# Altium schematic symbol library Wavefolder.SchLib: 5 symbols
Pins are listed as number, name and electrical type; pins without a type are passive.

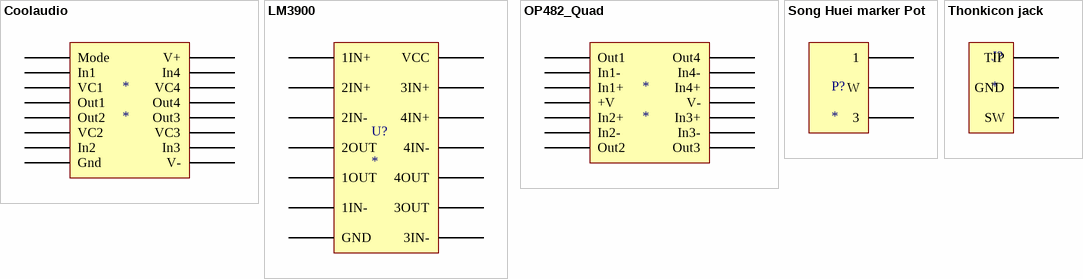
[diagram p0: symbols Coolaudio to Thonkicon jack]

## Coolaudio
designator *
footprint PCBComponent_1
pins: 1 Mode, 2 In1, 3 VC1, 4 Out1, 5 Out2, 6 VC2, 7 In2, 8 Gnd, 9 V-, 10 In3, 11 VC3, 12 Out3, 13 Out4, 14 VC4, 15 In4, 16 V+

## LM3900
designator U?
footprint LM3900 (LM3900 SOIC)
pins: 1 1IN+, 2 2IN+, 3 2IN-, 4 2OUT, 5 1OUT, 6 1IN-, 7 GND, 8 3IN-, 9 3OUT, 10 4OUT, 11 4IN-, 12 4IN+, 13 3IN+, 14 VCC

## OP482_Quad
designator *
pins: 1 Out1, 2 In1-, 3 In1+, 4 +V, 5 In2+, 6 In2-, 7 Out2, 8 Out3, 9 In3-, 10 In3+, 11 V-, 12 In4+, 13 In4-, 14 Out4

## Song Huei marker Pot
designator P?
footprint SonGueiPot
pins: 1, 2 W, 3

## Thonkicon jack
designator J?
footprint Thonkiconn Pot PJ301M (PJ301 Thonkicon Jack from Thonk)
pins: 1 GND, 2 SW, 3 TIP